# Altium integrated library Linear Technology Power Management System Supervisor, Monitor and Control.IntLib: 1611 symbols (part 70 of 100)
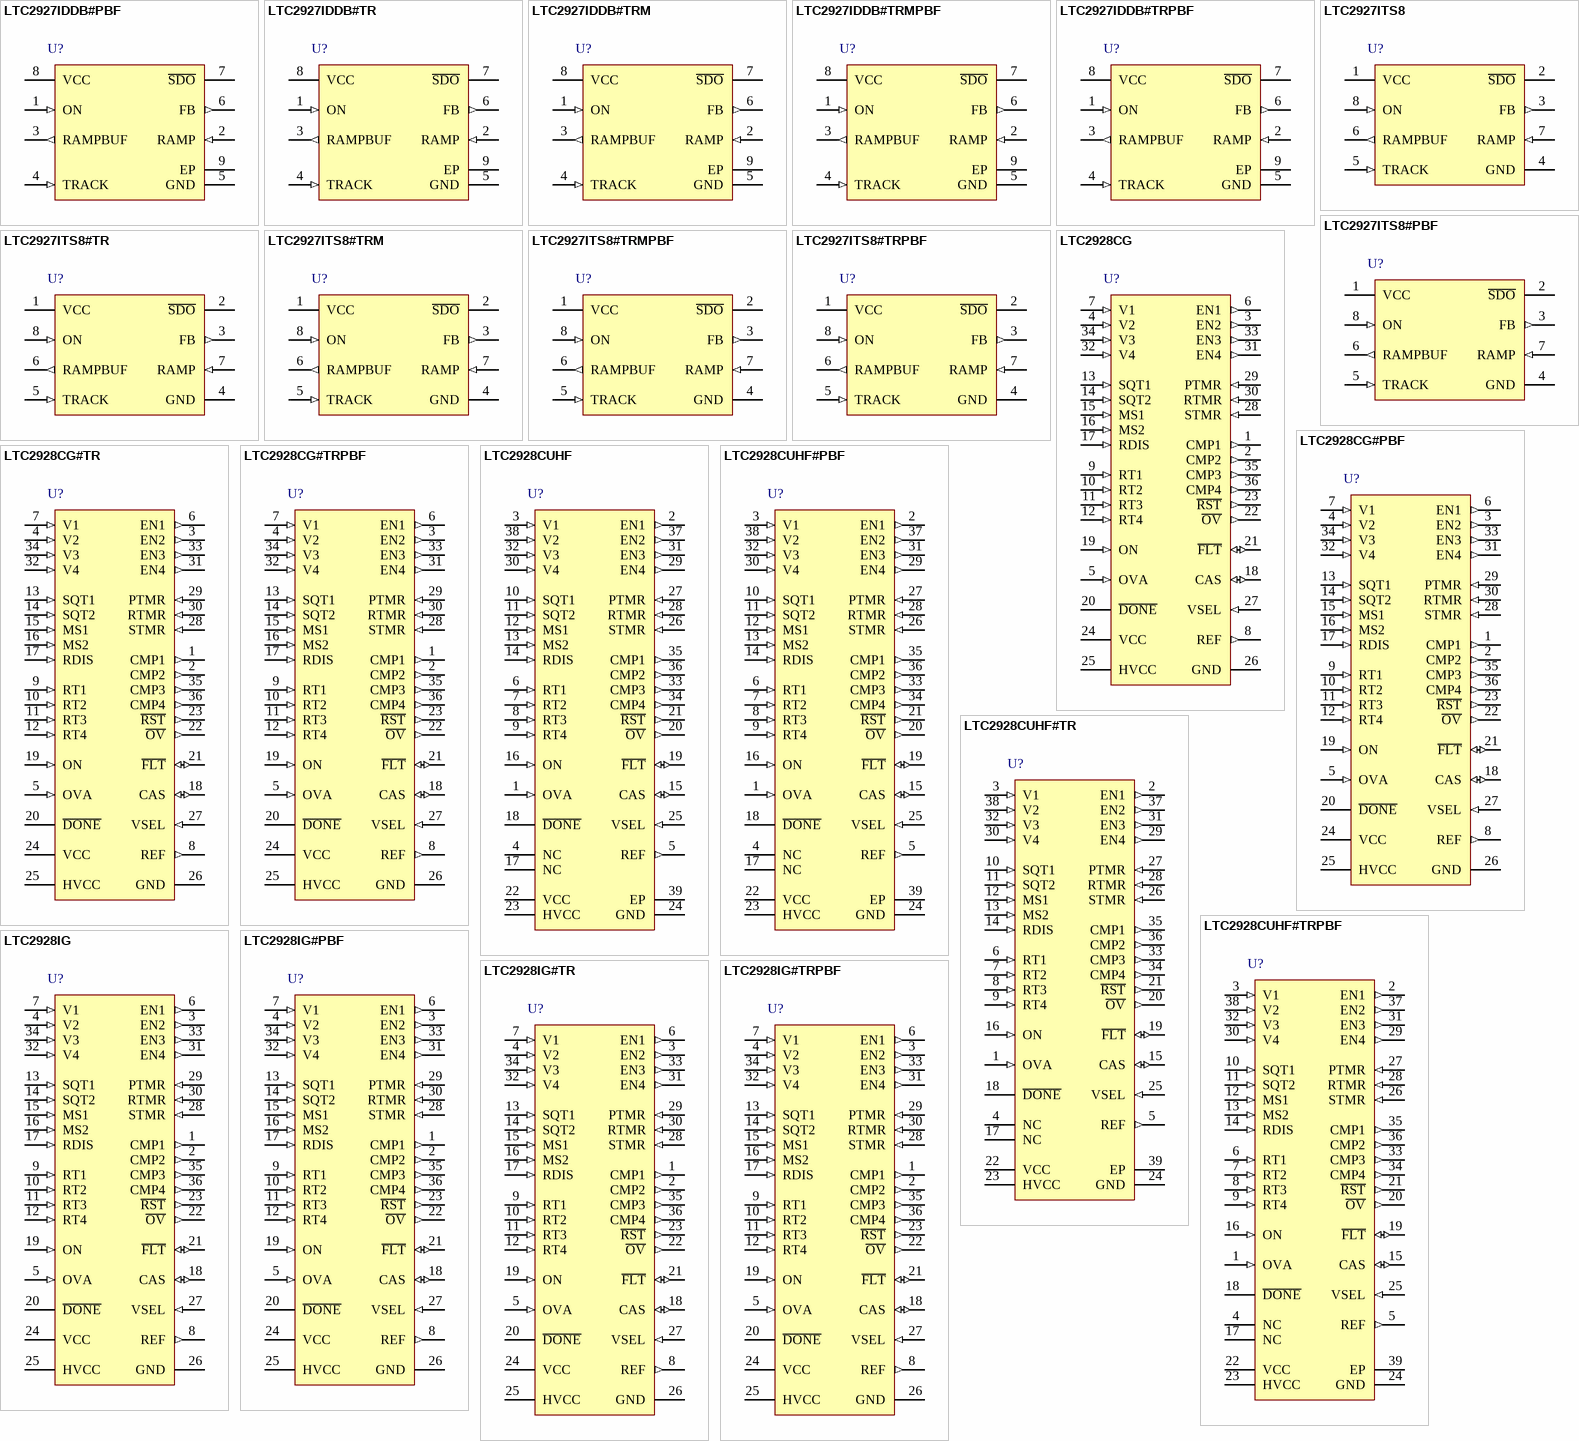
[diagram p114: symbols LTC2927IDDB#PBF to LTC2928IG#TRPBF]

## LTC2928CUHF
designator U?
Multichannel Power Supply Sequencer and Supervisor, 38-pin QFN (UHF-38), 0 to 70 degC; Manufacturer: Linear Technology; PartNumber: LTC2928CUHF; Number of Supplies(#): 4; PackageVersion: Rev. C, 06/2010; PackageReference: UHF-38; PackageDescription: 38-Pin Plastic QFN, Body 7 x 5 mm, Pitch 0.5 mm; RoHS: FALSE; Mounting Technology: Surface Mount; Code_JEDEC: MO-220; ComponentLink1Description: Manufacturer URL; ComponentLink1URL: http://www.linear.com/; ComponentLink2Description: Datasheet; ComponentLink2URL: http://cds.linear.com/docs/en/datasheet/2928f.pdf; ComponentLink3Description: Package Specification; ComponentLink3URL: http://cds.linear.com/docs/en/packaging/QFN_38_05-08-1701.pdf
footprint LT-UHF-38_N (QFN, 38-Leads, Body 7.1x5.1mm, Pitch 0.5mm, Thermal Pad 3.15x5.15mm, IPC Medium Density)
footprint LT-UHF-38_L (QFN, 38-Leads, Body 7.1x5.1mm, Pitch 0.5mm, Thermal Pad 3.15x5.15mm, IPC High Density)
footprint LT-UHF-38_M (QFN, 38-Leads, Body 7.1x5.1mm, Pitch 0.5mm, Thermal Pad 3.15x5.15mm, IPC Low Density)
pins: 1 OVA (in) "Over Voltage Adjust Input. After configuring the undervoltage thresholds, bias this input to set the overvoltage threshold for all positive supplies. Leave the pin floating to set an overvoltage threshold approximately 32% (See Datasheet)", 2 EN1 (out) "Enable Output. Connect these outputs to a power supply shutdown input or an external N-channel MOSFET gate for the supply to be sequenced. When enabled, each output is connected to an internal charge pumped supply (nominally (See Datasheet)", 3 V1 (in) "Voltage Monitor Input. Connect these high impedance inputs to external resistive dividers between each monitored power supply and ground (or REF for negative supplies monitored on V1). See Applications Information for (See Datasheet)", 4 NC "No Connect. Unconnected pins.", 5 REF (out) "Reference Output. REF is used to offset negative supplies connected through resistance to V1. The reference will move during sequence-up and sequence-down operation to effect the selected thresholds. The buffered reference (See Datasheet)", 6 RT1 (in) "Resistive Time Position Configuration Input. Place a single resistor from VCC to each input to select one of eight time positions in which to turn-on or turn-off each enable output (see Application Information for RT table). (See Datasheet)", 7 RT2 (in) "Resistive Time Position Configuration Input. Place a single resistor from VCC to each input to select one of eight time positions in which to turn-on or turn-off each enable output (see Application Information for RT table). (See Datasheet)", 8 RT3 (in) "Resistive Time Position Configuration Input. Place a single resistor from VCC to each input to select one of eight time positions in which to turn-on or turn-off each enable output (see Application Information for RT table). (See Datasheet)", 9 RT4 (in) "Resistive Time Position Configuration Input. Place a single resistor from VCC to each input to select one of eight time positions in which to turn-on or turn-off each enable output (see Application Information for RT table). (See Datasheet)", 10 SQT1 (in) "Sequencing Threshold Three State Configuration Input. Select sequencing thresholds as a percentage of the 0.5V supply monitor threshold for positive supplies and as a percentage of REF for negative supplies. For (See Datasheet)", 11 SQT2 (in) "Sequencing Threshold Three State Configuration Input. Select sequencing thresholds as a percentage of the 0.5V supply monitor threshold for positive supplies and as a percentage of REF for negative supplies. For (See Datasheet)", 12 MS1 (in) "Master/Slave Three State Configuration Input. Depending on the application, select each LTC2928 as a master or slave part and whether or not the part is designated as the first part in a cascade application. The (See Datasheet)", 13 MS2 (in) "Master/Slave Three State Configuration Input. Depending on the application, select each LTC2928 as a master or slave part and whether or not the part is designated as the first part in a cascade application. The (See Datasheet)", 14 RDIS (in) "Reset Disable Three State Input. Typically used for supply margining applications. Pull RDIS high or low to force R\S\T\ high. Leave the RDIS input open to allow R\S\T\ to operate normally.", 15 CAS (io) "Cascade Input/Output. Connect the cascade pin between a master and one or more slave devices to increase the number of supplies that can be sequenced per time position. See Applications Information for details. Do not add (See Datasheet)", 16 ON (in) "Sequence Up/Down Input. A voltage transition above 1V starts the sequence-up phase. A voltage transition below 0.97V starts the sequence-down phase. An ON transition applied during a sequence-up (or down) phase is treated as (See Datasheet)", 17 NC "No Connect. Unconnected pins.", 18 ~{DONE} (hiz) "Sequence Done Output. The last (or only) LTC2928 must have D\O\N\E\ pulled high with an external resistor to VCC (3.3k 5% recommended). The LTC2928 floats D\O\N\E\ until the completion of a sequence-up operation when it is (See Datasheet)", 19 ~{FLT} (io) "Fault Input/Output. Pull FLT high with an external resistor (10k recommended). The LTC2928 will pull FLT low if an internal fault condition is detected (see Applications Information for details). An external signal such as (See Datasheet)", 20 ~{OV} (out) "Overvoltage Output. Pulls low when any positive supply exceeds its configured overvoltage threshold. O\V\ remains low until all positive supplies have remained below the overvoltage threshold for a time equal to the (See Datasheet)", 21 ~{RST} (out) "Reset Output. If any supply is below its undervoltage threshold, R\S\T\ pulls low. R\S\T\ pulls high after all supplies are above their undervoltage threshold for the configured delay time (configure delay time using the (See Datasheet)", 22 VCC (power) "Power Supply Input/Output. All internal circuits are powered from VCC. Bypass VCC with at least 0.1uF to ground in close proximity to this pin (1uF minimum when using HVCC).", 23 HVCC (power) "High Voltage (7.2V to 16.5V) Power Supply Input. Bypass HVCC with at least 0.1uF to ground in close proximity to this pin. The internal HVCC regulator provides a regulated 3.3V to VCC. VCC may be used to power external (See Datasheet)", 24 GND (power) "Device ground.", 25 VSEL (in) "Voltage Monitor Select Input. Tie to ground to select four positive inputs. Tie to VCC for three positive and one negative adjustable input. Negative supplies are monitored on the V1 input. See Applications Information for (See Datasheet)", 26 STMR (in) "Sequence Timer. Attach an external capacitor to ground to set the adjacent time-position delay between sequenced supplies. For supplies in adjacent time positions, this delay resides between the previous supply crossing its (See Datasheet)", 27 PTMR (in) "Power Good Timer. Attach an external capacitor to ground to set the maximum time allowed for all supplies to reach their configured undervoltage threshold during sequence-up phase (or all supplies below their sequence down (See Datasheet)", 28 RTMR (in) "Reset Timer. Attach an external capacitor to ground to set a reset delay time of 4000ms/uF. Floating RTMR generates a minimum delay of approximately 50us. A 0.047uF capacitor will generate a 190ms delay time.", 29 EN4 (out) "Enable Output. Connect these outputs to a power supply shutdown input or an external N-channel MOSFET gate for the supply to be sequenced. When enabled, each output is connected to an internal charge pumped supply (nominally (See Datasheet)", 30 V4 (in) "Voltage Monitor Input. Connect these high impedance inputs to external resistive dividers between each monitored power supply and ground (or REF for negative supplies monitored on V1). See Applications Information for (See Datasheet)", 31 EN3 (out) "Enable Output. Connect these outputs to a power supply shutdown input or an external N-channel MOSFET gate for the supply to be sequenced. When enabled, each output is connected to an internal charge pumped supply (nominally (See Datasheet)", 32 V3 (in) "Voltage Monitor Input. Connect these high impedance inputs to external resistive dividers between each monitored power supply and ground (or REF for negative supplies monitored on V1). See Applications Information for (See Datasheet)", 33 CMP3 (out) "Comparator and/or Fault Status Output. The CMP outputs have a weak internal pull-up to VCC and may be pulled above VCC using an external pull-up. During sequence-up or sequence-down operation, all comparator outputs are low. (See Datasheet)", 34 CMP4 (out) "Comparator and/or Fault Status Output. The CMP outputs have a weak internal pull-up to VCC and may be pulled above VCC using an external pull-up. During sequence-up or sequence-down operation, all comparator outputs are low. (See Datasheet)", 35 CMP1 (out) "Comparator and/or Fault Status Output. The CMP outputs have a weak internal pull-up to VCC and may be pulled above VCC using an external pull-up. During sequence-up or sequence-down operation, all comparator outputs are low. (See Datasheet)", 36 CMP2 (out) "Comparator and/or Fault Status Output. The CMP outputs have a weak internal pull-up to VCC and may be pulled above VCC using an external pull-up. During sequence-up or sequence-down operation, all comparator outputs are low. (See Datasheet)", 37 EN2 (out) "Enable Output. Connect these outputs to a power supply shutdown input or an external N-channel MOSFET gate for the supply to be sequenced. When enabled, each output is connected to an internal charge pumped supply (nominally (See Datasheet)", 38 V2 (in) "Voltage Monitor Input. Connect these high impedance inputs to external resistive dividers between each monitored power supply and ground (or REF for negative supplies monitored on V1). See Applications Information for (See Datasheet)", 39 EP (power) "Exposed pad may be left floating or connected to device ground."

## LTC2928CUHF#PBF
designator U?
Multichannel Power Supply Sequencer and Supervisor, 38-pin QFN (UHF-38), 0 to 70 degC, Pb-Free; Manufacturer: Linear Technology; PartNumber: LTC2928CUHF#PBF; Number of Supplies(#): 4; PackageVersion: Rev. C, 06/2010; PackageReference: UHF-38; PackageDescription: 38-Pin Plastic QFN, Body 7 x 5 mm, Pitch 0.5 mm; Supplier 1: Digi-Key; Supplier Part Number 1: LTC2928CUHF#PBF-ND; Supplier 2: Farnell; Supplier Part Number 2: 2295440; Supplier 3: Newark; Supplier Part Number 3: 56M7158; RoHS: TRUE; Mounting Technology: Surface Mount; Code_JEDEC: MO-220; ComponentLink1Description: Manufacturer URL; ComponentLink1URL: http://www.linear.com/; ComponentLink2Description: Datasheet; ComponentLink2URL: http://cds.linear.com/docs/en/datasheet/2928f.pdf; ComponentLink3Description: Package Specification; ComponentLink3URL: http://cds.linear.com/docs/en/packaging/QFN_38_05-08-1701.pdf
footprint LT-UHF-38_N (QFN, 38-Leads, Body 7.1x5.1mm, Pitch 0.5mm, Thermal Pad 3.15x5.15mm, IPC Medium Density)
footprint LT-UHF-38_L (QFN, 38-Leads, Body 7.1x5.1mm, Pitch 0.5mm, Thermal Pad 3.15x5.15mm, IPC High Density)
footprint LT-UHF-38_M (QFN, 38-Leads, Body 7.1x5.1mm, Pitch 0.5mm, Thermal Pad 3.15x5.15mm, IPC Low Density)
pins: 1 OVA (in) "Over Voltage Adjust Input. After configuring the undervoltage thresholds, bias this input to set the overvoltage threshold for all positive supplies. Leave the pin floating to set an overvoltage threshold approximately 32% (See Datasheet)", 2 EN1 (out) "Enable Output. Connect these outputs to a power supply shutdown input or an external N-channel MOSFET gate for the supply to be sequenced. When enabled, each output is connected to an internal charge pumped supply (nominally (See Datasheet)", 3 V1 (in) "Voltage Monitor Input. Connect these high impedance inputs to external resistive dividers between each monitored power supply and ground (or REF for negative supplies monitored on V1). See Applications Information for (See Datasheet)", 4 NC "No Connect. Unconnected pins.", 5 REF (out) "Reference Output. REF is used to offset negative supplies connected through resistance to V1. The reference will move during sequence-up and sequence-down operation to effect the selected thresholds. The buffered reference (See Datasheet)", 6 RT1 (in) "Resistive Time Position Configuration Input. Place a single resistor from VCC to each input to select one of eight time positions in which to turn-on or turn-off each enable output (see Application Information for RT table). (See Datasheet)", 7 RT2 (in) "Resistive Time Position Configuration Input. Place a single resistor from VCC to each input to select one of eight time positions in which to turn-on or turn-off each enable output (see Application Information for RT table). (See Datasheet)", 8 RT3 (in) "Resistive Time Position Configuration Input. Place a single resistor from VCC to each input to select one of eight time positions in which to turn-on or turn-off each enable output (see Application Information for RT table). (See Datasheet)", 9 RT4 (in) "Resistive Time Position Configuration Input. Place a single resistor from VCC to each input to select one of eight time positions in which to turn-on or turn-off each enable output (see Application Information for RT table). (See Datasheet)", 10 SQT1 (in) "Sequencing Threshold Three State Configuration Input. Select sequencing thresholds as a percentage of the 0.5V supply monitor threshold for positive supplies and as a percentage of REF for negative supplies. For (See Datasheet)", 11 SQT2 (in) "Sequencing Threshold Three State Configuration Input. Select sequencing thresholds as a percentage of the 0.5V supply monitor threshold for positive supplies and as a percentage of REF for negative supplies. For (See Datasheet)", 12 MS1 (in) "Master/Slave Three State Configuration Input. Depending on the application, select each LTC2928 as a master or slave part and whether or not the part is designated as the first part in a cascade application. The (See Datasheet)", 13 MS2 (in) "Master/Slave Three State Configuration Input. Depending on the application, select each LTC2928 as a master or slave part and whether or not the part is designated as the first part in a cascade application. The (See Datasheet)", 14 RDIS (in) "Reset Disable Three State Input. Typically used for supply margining applications. Pull RDIS high or low to force R\S\T\ high. Leave the RDIS input open to allow R\S\T\ to operate normally.", 15 CAS (io) "Cascade Input/Output. Connect the cascade pin between a master and one or more slave devices to increase the number of supplies that can be sequenced per time position. See Applications Information for details. Do not add (See Datasheet)", 16 ON (in) "Sequence Up/Down Input. A voltage transition above 1V starts the sequence-up phase. A voltage transition below 0.97V starts the sequence-down phase. An ON transition applied during a sequence-up (or down) phase is treated as (See Datasheet)", 17 NC "No Connect. Unconnected pins.", 18 ~{DONE} (hiz) "Sequence Done Output. The last (or only) LTC2928 must have D\O\N\E\ pulled high with an external resistor to VCC (3.3k 5% recommended). The LTC2928 floats D\O\N\E\ until the completion of a sequence-up operation when it is (See Datasheet)", 19 ~{FLT} (io) "Fault Input/Output. Pull FLT high with an external resistor (10k recommended). The LTC2928 will pull FLT low if an internal fault condition is detected (see Applications Information for details). An external signal such as (See Datasheet)", 20 ~{OV} (out) "Overvoltage Output. Pulls low when any positive supply exceeds its configured overvoltage threshold. O\V\ remains low until all positive supplies have remained below the overvoltage threshold for a time equal to the (See Datasheet)", 21 ~{RST} (out) "Reset Output. If any supply is below its undervoltage threshold, R\S\T\ pulls low. R\S\T\ pulls high after all supplies are above their undervoltage threshold for the configured delay time (configure delay time using the (See Datasheet)", 22 VCC (power) "Power Supply Input/Output. All internal circuits are powered from VCC. Bypass VCC with at least 0.1uF to ground in close proximity to this pin (1uF minimum when using HVCC).", 23 HVCC (power) "High Voltage (7.2V to 16.5V) Power Supply Input. Bypass HVCC with at least 0.1uF to ground in close proximity to this pin. The internal HVCC regulator provides a regulated 3.3V to VCC. VCC may be used to power external (See Datasheet)", 24 GND (power) "Device ground.", 25 VSEL (in) "Voltage Monitor Select Input. Tie to ground to select four positive inputs. Tie to VCC for three positive and one negative adjustable input. Negative supplies are monitored on the V1 input. See Applications Information for (See Datasheet)", 26 STMR (in) "Sequence Timer. Attach an external capacitor to ground to set the adjacent time-position delay between sequenced supplies. For supplies in adjacent time positions, this delay resides between the previous supply crossing its (See Datasheet)", 27 PTMR (in) "Power Good Timer. Attach an external capacitor to ground to set the maximum time allowed for all supplies to reach their configured undervoltage threshold during sequence-up phase (or all supplies below their sequence down (See Datasheet)", 28 RTMR (in) "Reset Timer. Attach an external capacitor to ground to set a reset delay time of 4000ms/uF. Floating RTMR generates a minimum delay of approximately 50us. A 0.047uF capacitor will generate a 190ms delay time.", 29 EN4 (out) "Enable Output. Connect these outputs to a power supply shutdown input or an external N-channel MOSFET gate for the supply to be sequenced. When enabled, each output is connected to an internal charge pumped supply (nominally (See Datasheet)", 30 V4 (in) "Voltage Monitor Input. Connect these high impedance inputs to external resistive dividers between each monitored power supply and ground (or REF for negative supplies monitored on V1). See Applications Information for (See Datasheet)", 31 EN3 (out) "Enable Output. Connect these outputs to a power supply shutdown input or an external N-channel MOSFET gate for the supply to be sequenced. When enabled, each output is connected to an internal charge pumped supply (nominally (See Datasheet)", 32 V3 (in) "Voltage Monitor Input. Connect these high impedance inputs to external resistive dividers between each monitored power supply and ground (or REF for negative supplies monitored on V1). See Applications Information for (See Datasheet)", 33 CMP3 (out) "Comparator and/or Fault Status Output. The CMP outputs have a weak internal pull-up to VCC and may be pulled above VCC using an external pull-up. During sequence-up or sequence-down operation, all comparator outputs are low. (See Datasheet)", 34 CMP4 (out) "Comparator and/or Fault Status Output. The CMP outputs have a weak internal pull-up to VCC and may be pulled above VCC using an external pull-up. During sequence-up or sequence-down operation, all comparator outputs are low. (See Datasheet)", 35 CMP1 (out) "Comparator and/or Fault Status Output. The CMP outputs have a weak internal pull-up to VCC and may be pulled above VCC using an external pull-up. During sequence-up or sequence-down operation, all comparator outputs are low. (See Datasheet)", 36 CMP2 (out) "Comparator and/or Fault Status Output. The CMP outputs have a weak internal pull-up to VCC and may be pulled above VCC using an external pull-up. During sequence-up or sequence-down operation, all comparator outputs are low. (See Datasheet)", 37 EN2 (out) "Enable Output. Connect these outputs to a power supply shutdown input or an external N-channel MOSFET gate for the supply to be sequenced. When enabled, each output is connected to an internal charge pumped supply (nominally (See Datasheet)", 38 V2 (in) "Voltage Monitor Input. Connect these high impedance inputs to external resistive dividers between each monitored power supply and ground (or REF for negative supplies monitored on V1). See Applications Information for (See Datasheet)", 39 EP (power) "Exposed pad may be left floating or connected to device ground."

## LTC2928CUHF#TR
designator U?
Multichannel Power Supply Sequencer and Supervisor, 38-pin QFN (UHF-38), 0 to 70 degC, Tape and Reel; Manufacturer: Linear Technology; PartNumber: LTC2928CUHF#TR; Number of Supplies(#): 4; PackageVersion: Rev. C, 06/2010; PackageReference: UHF-38; PackageDescription: 38-Pin Plastic QFN, Body 7 x 5 mm, Pitch 0.5 mm; Packing: Tape and Reel; RoHS: FALSE; Mounting Technology: Surface Mount; Code_JEDEC: MO-220; ComponentLink1Description: Manufacturer URL; ComponentLink1URL: http://www.linear.com/; ComponentLink2Description: Datasheet; ComponentLink2URL: http://cds.linear.com/docs/en/datasheet/2928f.pdf; ComponentLink3Description: Package Specification; ComponentLink3URL: http://cds.linear.com/docs/en/packaging/QFN_38_05-08-1701.pdf
footprint LT-UHF-38_N (QFN, 38-Leads, Body 7.1x5.1mm, Pitch 0.5mm, Thermal Pad 3.15x5.15mm, IPC Medium Density)
footprint LT-UHF-38_L (QFN, 38-Leads, Body 7.1x5.1mm, Pitch 0.5mm, Thermal Pad 3.15x5.15mm, IPC High Density)
footprint LT-UHF-38_M (QFN, 38-Leads, Body 7.1x5.1mm, Pitch 0.5mm, Thermal Pad 3.15x5.15mm, IPC Low Density)
pins: 1 OVA (in) "Over Voltage Adjust Input. After configuring the undervoltage thresholds, bias this input to set the overvoltage threshold for all positive supplies. Leave the pin floating to set an overvoltage threshold approximately 32% (See Datasheet)", 2 EN1 (out) "Enable Output. Connect these outputs to a power supply shutdown input or an external N-channel MOSFET gate for the supply to be sequenced. When enabled, each output is connected to an internal charge pumped supply (nominally (See Datasheet)", 3 V1 (in) "Voltage Monitor Input. Connect these high impedance inputs to external resistive dividers between each monitored power supply and ground (or REF for negative supplies monitored on V1). See Applications Information for (See Datasheet)", 4 NC "No Connect. Unconnected pins.", 5 REF (out) "Reference Output. REF is used to offset negative supplies connected through resistance to V1. The reference will move during sequence-up and sequence-down operation to effect the selected thresholds. The buffered reference (See Datasheet)", 6 RT1 (in) "Resistive Time Position Configuration Input. Place a single resistor from VCC to each input to select one of eight time positions in which to turn-on or turn-off each enable output (see Application Information for RT table). (See Datasheet)", 7 RT2 (in) "Resistive Time Position Configuration Input. Place a single resistor from VCC to each input to select one of eight time positions in which to turn-on or turn-off each enable output (see Application Information for RT table). (See Datasheet)", 8 RT3 (in) "Resistive Time Position Configuration Input. Place a single resistor from VCC to each input to select one of eight time positions in which to turn-on or turn-off each enable output (see Application Information for RT table). (See Datasheet)", 9 RT4 (in) "Resistive Time Position Configuration Input. Place a single resistor from VCC to each input to select one of eight time positions in which to turn-on or turn-off each enable output (see Application Information for RT table). (See Datasheet)", 10 SQT1 (in) "Sequencing Threshold Three State Configuration Input. Select sequencing thresholds as a percentage of the 0.5V supply monitor threshold for positive supplies and as a percentage of REF for negative supplies. For (See Datasheet)", 11 SQT2 (in) "Sequencing Threshold Three State Configuration Input. Select sequencing thresholds as a percentage of the 0.5V supply monitor threshold for positive supplies and as a percentage of REF for negative supplies. For (See Datasheet)", 12 MS1 (in) "Master/Slave Three State Configuration Input. Depending on the application, select each LTC2928 as a master or slave part and whether or not the part is designated as the first part in a cascade application. The (See Datasheet)", 13 MS2 (in) "Master/Slave Three State Configuration Input. Depending on the application, select each LTC2928 as a master or slave part and whether or not the part is designated as the first part in a cascade application. The (See Datasheet)", 14 RDIS (in) "Reset Disable Three State Input. Typically used for supply margining applications. Pull RDIS high or low to force R\S\T\ high. Leave the RDIS input open to allow R\S\T\ to operate normally.", 15 CAS (io) "Cascade Input/Output. Connect the cascade pin between a master and one or more slave devices to increase the number of supplies that can be sequenced per time position. See Applications Information for details. Do not add (See Datasheet)", 16 ON (in) "Sequence Up/Down Input. A voltage transition above 1V starts the sequence-up phase. A voltage transition below 0.97V starts the sequence-down phase. An ON transition applied during a sequence-up (or down) phase is treated as (See Datasheet)", 17 NC "No Connect. Unconnected pins.", 18 ~{DONE} (hiz) "Sequence Done Output. The last (or only) LTC2928 must have D\O\N\E\ pulled high with an external resistor to VCC (3.3k 5% recommended). The LTC2928 floats D\O\N\E\ until the completion of a sequence-up operation when it is (See Datasheet)", 19 ~{FLT} (io) "Fault Input/Output. Pull FLT high with an external resistor (10k recommended). The LTC2928 will pull FLT low if an internal fault condition is detected (see Applications Information for details). An external signal such as (See Datasheet)", 20 ~{OV} (out) "Overvoltage Output. Pulls low when any positive supply exceeds its configured overvoltage threshold. O\V\ remains low until all positive supplies have remained below the overvoltage threshold for a time equal to the (See Datasheet)", 21 ~{RST} (out) "Reset Output. If any supply is below its undervoltage threshold, R\S\T\ pulls low. R\S\T\ pulls high after all supplies are above their undervoltage threshold for the configured delay time (configure delay time using the (See Datasheet)", 22 VCC (power) "Power Supply Input/Output. All internal circuits are powered from VCC. Bypass VCC with at least 0.1uF to ground in close proximity to this pin (1uF minimum when using HVCC).", 23 HVCC (power) "High Voltage (7.2V to 16.5V) Power Supply Input. Bypass HVCC with at least 0.1uF to ground in close proximity to this pin. The internal HVCC regulator provides a regulated 3.3V to VCC. VCC may be used to power external (See Datasheet)", 24 GND (power) "Device ground.", 25 VSEL (in) "Voltage Monitor Select Input. Tie to ground to select four positive inputs. Tie to VCC for three positive and one negative adjustable input. Negative supplies are monitored on the V1 input. See Applications Information for (See Datasheet)", 26 STMR (in) "Sequence Timer. Attach an external capacitor to ground to set the adjacent time-position delay between sequenced supplies. For supplies in adjacent time positions, this delay resides between the previous supply crossing its (See Datasheet)", 27 PTMR (in) "Power Good Timer. Attach an external capacitor to ground to set the maximum time allowed for all supplies to reach their configured undervoltage threshold during sequence-up phase (or all supplies below their sequence down (See Datasheet)", 28 RTMR (in) "Reset Timer. Attach an external capacitor to ground to set a reset delay time of 4000ms/uF. Floating RTMR generates a minimum delay of approximately 50us. A 0.047uF capacitor will generate a 190ms delay time.", 29 EN4 (out) "Enable Output. Connect these outputs to a power supply shutdown input or an external N-channel MOSFET gate for the supply to be sequenced. When enabled, each output is connected to an internal charge pumped supply (nominally (See Datasheet)", 30 V4 (in) "Voltage Monitor Input. Connect these high impedance inputs to external resistive dividers between each monitored power supply and ground (or REF for negative supplies monitored on V1). See Applications Information for (See Datasheet)", 31 EN3 (out) "Enable Output. Connect these outputs to a power supply shutdown input or an external N-channel MOSFET gate for the supply to be sequenced. When enabled, each output is connected to an internal charge pumped supply (nominally (See Datasheet)", 32 V3 (in) "Voltage Monitor Input. Connect these high impedance inputs to external resistive dividers between each monitored power supply and ground (or REF for negative supplies monitored on V1). See Applications Information for (See Datasheet)", 33 CMP3 (out) "Comparator and/or Fault Status Output. The CMP outputs have a weak internal pull-up to VCC and may be pulled above VCC using an external pull-up. During sequence-up or sequence-down operation, all comparator outputs are low. (See Datasheet)", 34 CMP4 (out) "Comparator and/or Fault Status Output. The CMP outputs have a weak internal pull-up to VCC and may be pulled above VCC using an external pull-up. During sequence-up or sequence-down operation, all comparator outputs are low. (See Datasheet)", 35 CMP1 (out) "Comparator and/or Fault Status Output. The CMP outputs have a weak internal pull-up to VCC and may be pulled above VCC using an external pull-up. During sequence-up or sequence-down operation, all comparator outputs are low. (See Datasheet)", 36 CMP2 (out) "Comparator and/or Fault Status Output. The CMP outputs have a weak internal pull-up to VCC and may be pulled above VCC using an external pull-up. During sequence-up or sequence-down operation, all comparator outputs are low. (See Datasheet)", 37 EN2 (out) "Enable Output. Connect these outputs to a power supply shutdown input or an external N-channel MOSFET gate for the supply to be sequenced. When enabled, each output is connected to an internal charge pumped supply (nominally (See Datasheet)", 38 V2 (in) "Voltage Monitor Input. Connect these high impedance inputs to external resistive dividers between each monitored power supply and ground (or REF for negative supplies monitored on V1). See Applications Information for (See Datasheet)", 39 EP (power) "Exposed pad may be left floating or connected to device ground."

## LTC2928CUHF#TRPBF
designator U?
Multichannel Power Supply Sequencer and Supervisor, 38-pin QFN (UHF-38), 0 to 70 degC, Pb-Free, Tape and Reel; Manufacturer: Linear Technology; PartNumber: LTC2928CUHF#TRPBF; Number of Supplies(#): 4; PackageVersion: Rev. C, 06/2010; PackageReference: UHF-38; PackageDescription: 38-Pin Plastic QFN, Body 7 x 5 mm, Pitch 0.5 mm; Supplier 1: Digi-Key; Supplier Part Number 1: LTC2928CUHF#TRPBF-ND; Packing: Tape and Reel; RoHS: TRUE; Mounting Technology: Surface Mount; Code_JEDEC: MO-220; ComponentLink1Description: Manufacturer URL; ComponentLink1URL: http://www.linear.com/; ComponentLink2Description: Datasheet; ComponentLink2URL: http://cds.linear.com/docs/en/datasheet/2928f.pdf; ComponentLink3Description: Package Specification; ComponentLink3URL: http://cds.linear.com/docs/en/packaging/QFN_38_05-08-1701.pdf
footprint LT-UHF-38_N (QFN, 38-Leads, Body 7.1x5.1mm, Pitch 0.5mm, Thermal Pad 3.15x5.15mm, IPC Medium Density)
footprint LT-UHF-38_L (QFN, 38-Leads, Body 7.1x5.1mm, Pitch 0.5mm, Thermal Pad 3.15x5.15mm, IPC High Density)
footprint LT-UHF-38_M (QFN, 38-Leads, Body 7.1x5.1mm, Pitch 0.5mm, Thermal Pad 3.15x5.15mm, IPC Low Density)
pins: 1 OVA (in) "Over Voltage Adjust Input. After configuring the undervoltage thresholds, bias this input to set the overvoltage threshold for all positive supplies. Leave the pin floating to set an overvoltage threshold approximately 32% (See Datasheet)", 2 EN1 (out) "Enable Output. Connect these outputs to a power supply shutdown input or an external N-channel MOSFET gate for the supply to be sequenced. When enabled, each output is connected to an internal charge pumped supply (nominally (See Datasheet)", 3 V1 (in) "Voltage Monitor Input. Connect these high impedance inputs to external resistive dividers between each monitored power supply and ground (or REF for negative supplies monitored on V1). See Applications Information for (See Datasheet)", 4 NC "No Connect. Unconnected pins.", 5 REF (out) "Reference Output. REF is used to offset negative supplies connected through resistance to V1. The reference will move during sequence-up and sequence-down operation to effect the selected thresholds. The buffered reference (See Datasheet)", 6 RT1 (in) "Resistive Time Position Configuration Input. Place a single resistor from VCC to each input to select one of eight time positions in which to turn-on or turn-off each enable output (see Application Information for RT table). (See Datasheet)", 7 RT2 (in) "Resistive Time Position Configuration Input. Place a single resistor from VCC to each input to select one of eight time positions in which to turn-on or turn-off each enable output (see Application Information for RT table). (See Datasheet)", 8 RT3 (in) "Resistive Time Position Configuration Input. Place a single resistor from VCC to each input to select one of eight time positions in which to turn-on or turn-off each enable output (see Application Information for RT table). (See Datasheet)", 9 RT4 (in) "Resistive Time Position Configuration Input. Place a single resistor from VCC to each input to select one of eight time positions in which to turn-on or turn-off each enable output (see Application Information for RT table). (See Datasheet)", 10 SQT1 (in) "Sequencing Threshold Three State Configuration Input. Select sequencing thresholds as a percentage of the 0.5V supply monitor threshold for positive supplies and as a percentage of REF for negative supplies. For (See Datasheet)", 11 SQT2 (in) "Sequencing Threshold Three State Configuration Input. Select sequencing thresholds as a percentage of the 0.5V supply monitor threshold for positive supplies and as a percentage of REF for negative supplies. For (See Datasheet)", 12 MS1 (in) "Master/Slave Three State Configuration Input. Depending on the application, select each LTC2928 as a master or slave part and whether or not the part is designated as the first part in a cascade application. The (See Datasheet)", 13 MS2 (in) "Master/Slave Three State Configuration Input. Depending on the application, select each LTC2928 as a master or slave part and whether or not the part is designated as the first part in a cascade application. The (See Datasheet)", 14 RDIS (in) "Reset Disable Three State Input. Typically used for supply margining applications. Pull RDIS high or low to force R\S\T\ high. Leave the RDIS input open to allow R\S\T\ to operate normally.", 15 CAS (io) "Cascade Input/Output. Connect the cascade pin between a master and one or more slave devices to increase the number of supplies that can be sequenced per time position. See Applications Information for details. Do not add (See Datasheet)", 16 ON (in) "Sequence Up/Down Input. A voltage transition above 1V starts the sequence-up phase. A voltage transition below 0.97V starts the sequence-down phase. An ON transition applied during a sequence-up (or down) phase is treated as (See Datasheet)", 17 NC "No Connect. Unconnected pins.", 18 ~{DONE} (hiz) "Sequence Done Output. The last (or only) LTC2928 must have D\O\N\E\ pulled high with an external resistor to VCC (3.3k 5% recommended). The LTC2928 floats D\O\N\E\ until the completion of a sequence-up operation when it is (See Datasheet)", 19 ~{FLT} (io) "Fault Input/Output. Pull FLT high with an external resistor (10k recommended). The LTC2928 will pull FLT low if an internal fault condition is detected (see Applications Information for details). An external signal such as (See Datasheet)", 20 ~{OV} (out) "Overvoltage Output. Pulls low when any positive supply exceeds its configured overvoltage threshold. O\V\ remains low until all positive supplies have remained below the overvoltage threshold for a time equal to the (See Datasheet)", 21 ~{RST} (out) "Reset Output. If any supply is below its undervoltage threshold, R\S\T\ pulls low. R\S\T\ pulls high after all supplies are above their undervoltage threshold for the configured delay time (configure delay time using the (See Datasheet)", 22 VCC (power) "Power Supply Input/Output. All internal circuits are powered from VCC. Bypass VCC with at least 0.1uF to ground in close proximity to this pin (1uF minimum when using HVCC).", 23 HVCC (power) "High Voltage (7.2V to 16.5V) Power Supply Input. Bypass HVCC with at least 0.1uF to ground in close proximity to this pin. The internal HVCC regulator provides a regulated 3.3V to VCC. VCC may be used to power external (See Datasheet)", 24 GND (power) "Device ground.", 25 VSEL (in) "Voltage Monitor Select Input. Tie to ground to select four positive inputs. Tie to VCC for three positive and one negative adjustable input. Negative supplies are monitored on the V1 input. See Applications Information for (See Datasheet)", 26 STMR (in) "Sequence Timer. Attach an external capacitor to ground to set the adjacent time-position delay between sequenced supplies. For supplies in adjacent time positions, this delay resides between the previous supply crossing its (See Datasheet)", 27 PTMR (in) "Power Good Timer. Attach an external capacitor to ground to set the maximum time allowed for all supplies to reach their configured undervoltage threshold during sequence-up phase (or all supplies below their sequence down (See Datasheet)", 28 RTMR (in) "Reset Timer. Attach an external capacitor to ground to set a reset delay time of 4000ms/uF. Floating RTMR generates a minimum delay of approximately 50us. A 0.047uF capacitor will generate a 190ms delay time.", 29 EN4 (out) "Enable Output. Connect these outputs to a power supply shutdown input or an external N-channel MOSFET gate for the supply to be sequenced. When enabled, each output is connected to an internal charge pumped supply (nominally (See Datasheet)", 30 V4 (in) "Voltage Monitor Input. Connect these high impedance inputs to external resistive dividers between each monitored power supply and ground (or REF for negative supplies monitored on V1). See Applications Information for (See Datasheet)", 31 EN3 (out) "Enable Output. Connect these outputs to a power supply shutdown input or an external N-channel MOSFET gate for the supply to be sequenced. When enabled, each output is connected to an internal charge pumped supply (nominally (See Datasheet)", 32 V3 (in) "Voltage Monitor Input. Connect these high impedance inputs to external resistive dividers between each monitored power supply and ground (or REF for negative supplies monitored on V1). See Applications Information for (See Datasheet)", 33 CMP3 (out) "Comparator and/or Fault Status Output. The CMP outputs have a weak internal pull-up to VCC and may be pulled above VCC using an external pull-up. During sequence-up or sequence-down operation, all comparator outputs are low. (See Datasheet)", 34 CMP4 (out) "Comparator and/or Fault Status Output. The CMP outputs have a weak internal pull-up to VCC and may be pulled above VCC using an external pull-up. During sequence-up or sequence-down operation, all comparator outputs are low. (See Datasheet)", 35 CMP1 (out) "Comparator and/or Fault Status Output. The CMP outputs have a weak internal pull-up to VCC and may be pulled above VCC using an external pull-up. During sequence-up or sequence-down operation, all comparator outputs are low. (See Datasheet)", 36 CMP2 (out) "Comparator and/or Fault Status Output. The CMP outputs have a weak internal pull-up to VCC and may be pulled above VCC using an external pull-up. During sequence-up or sequence-down operation, all comparator outputs are low. (See Datasheet)", 37 EN2 (out) "Enable Output. Connect these outputs to a power supply shutdown input or an external N-channel MOSFET gate for the supply to be sequenced. When enabled, each output is connected to an internal charge pumped supply (nominally (See Datasheet)", 38 V2 (in) "Voltage Monitor Input. Connect these high impedance inputs to external resistive dividers between each monitored power supply and ground (or REF for negative supplies monitored on V1). See Applications Information for (See Datasheet)", 39 EP (power) "Exposed pad may be left floating or connected to device ground."

## LTC2928IG
designator U?
Multichannel Power Supply Sequencer and Supervisor, 36-pin SOP (G-36), -40 to 85 degC; Manufacturer: Linear Technology; PartNumber: LTC2928IG; Number of Supplies(#): 4; PackageReference: G-36; PackageDescription: 36-Pin Plastic SSOP, Body 12.8 x 5.3 mm, Pitch 0.65 mm; RoHS: FALSE; Mounting Technology: Surface Mount; ComponentLink1Description: Manufacturer URL; ComponentLink1URL: http://www.linear.com/; ComponentLink2Description: Datasheet; ComponentLink2URL: http://cds.linear.com/docs/en/datasheet/2928f.pdf; ComponentLink3Description: Package Specification; ComponentLink3URL: http://cds.linear.com/docs/en/packaging/SSOP_36_05-08-1640.pdf
footprint LT-G-36_N (SOP, 36-Leads, Body 13.1x5.6mm, Pitch 0.65mm, IPC Medium Density)
footprint LT-G-36_L (SOP, 36-Leads, Body 13.1x5.6mm, Pitch 0.65mm, IPC High Density)
footprint LT-G-36_M (SOP, 36-Leads, Body 13.1x5.6mm, Pitch 0.65mm, IPC Low Density)
pins: 1 CMP1 (out) "Comparator and / or Fault Status Outputs. The CMP outputs have a weak internal pull-up to VCC and may be pulled above VCC using an external pull-up. During sequence-up or sequence-down operation, all comparator outputs are (See Datasheet)", 2 CMP2 (out) "Comparator and / or Fault Status Outputs. The CMP outputs have a weak internal pull-up to VCC and may be pulled above VCC using an external pull-up. During sequence-up or sequence-down operation, all comparator outputs are (See Datasheet)", 3 EN2 (out) "Enable Output. Connect this output to a power supply shutdown input or an external N-channel MOSFET gate for the supply to be sequenced.", 4 V2 (in) "Voltage Monitor Input.", 5 OVA (in) "Over Voltage Adjust Input. After configuring the undervoltage thresholds, bias this input to set the overvoltage threshold for all positive supplies. Leave the pin floating to set an overvoltage threshold approximately 32% (See Datasheet)", 6 EN1 (out) "Enable Output. Connect this output to a power supply shutdown input or an external N-channel MOSFET gate for the supply to be sequenced.", 7 V1 (in) "Voltage Monitor Input.", 8 REF (out) "Reference Output. REF is used to offset negative supplies connected through resistance to V1. The reference will move during sequence-up and sequence-down operation to effect the selected thresholds. The buffered reference (See Datasheet)", 9 RT1 (in) "Resistive Time Position Configuration Input.", 10 RT2 (in) "Resistive Time Position Configuration Input.", 11 RT3 (in) "Resistive Time Position Configuration Input.", 12 RT4 (in) "Resistive Time Position Configuration Input.", 13 SQT1 (in) "Sequencing Threshold Three State Configuration Input. Select sequencing thresholds as a percentage of the 0.5 V supply monitor threshold for positive supplies and as a percentage of REF for negative supplies.", 14 SQT2 (in) "Sequencing Threshold Three State Configuration Input. Select sequencing thresholds as a percentage of the 0.5 V supply monitor threshold for positive supplies and as a percentage of REF for negative supplies.", 15 MS1 (in) "Master / Slave Three State Configuration Input.", 16 MS2 (in) "Master / Slave Three State Configuration Input.", 17 RDIS (in) "Reset Disable Three State Input. Typically used for supply margining applications. Pull RDIS high or low to force RST high. Leave the RDIS input open to allow R\S\T\ to operate normally.", 18 CAS (io) "Cascade Input / Output. Connect the cascade pin between a master and one or more slave devices to increase the number of supplies that can be sequenced per time position. See Applications Information for details. Do not add (See Datasheet)", 19 ON (in) "Sequence Up / Down Input.", 20 ~{DONE} (hiz) "Sequence Done Output.", 21 ~{FLT} (io) "Fault Input / Output.", 22 ~{OV} (out) "Overvoltage Output.", 23 ~{RST} (out) "Reset Output.", 24 VCC (power) "Power Supply Input / Output.", 25 HVCC (power) "High Voltage (7.2 V to 16.5 V) Power Supply Input.", 26 GND (power) "Device ground.", 27 VSEL (in) "Voltage Monitor Select Input.", 28 STMR (in) "Sequence Timer. Attach an external capacitor to ground to set the adjacent time-position delay between sequenced supplies.", 29 PTMR (in) "Power Good Timer. Attach an external capacitor to ground to set the maximum time allowed for all supplies to reach their configured undervoltage threshold during sequence-up phase (or all supplies below their sequence- down  (See Datasheet)", 30 RTMR (in) "Reset Timer. Attach an external capacitor to ground to set a reset delay time of 4000 ms / uF.", 31 EN4 (out) "Enable Output. Connect this output to a power supply shutdown input or an external N-channel MOSFET gate for the supply to be sequenced.", 32 V4 (in) "Voltage Monitor Input.", 33 EN3 (out) "Enable Output. Connect this output to a power supply shutdown input or an external N-channel MOSFET gate for the supply to be sequenced.", 34 V3 (in) "Voltage Monitor Input.", 35 CMP3 (out) "Comparator and / or Fault Status Outputs. The CMP outputs have a weak internal pull-up to VCC and may be pulled above VCC using an external pull-up. During sequence-up or sequence-down operation, all comparator outputs are (See Datasheet)", 36 CMP4 (out) "Comparator and / or Fault Status Outputs. The CMP outputs have a weak internal pull-up to VCC and may be pulled above VCC using an external pull-up. During sequence-up or sequence-down operation, all comparator outputs are (See Datasheet)"